# Altium footprint library Components - 24.04.26 - 12.29.PcbLib: 1 footprints
Each footprint in its own frame and in the unit in brackets; x right, y up, seen from the top. Pads: shape width x height; smd on the part's side, far side on the other; paste and mask are expansions set on the pad; w line width, h text height; cw(c..) or ccw(c..) is an arc to the next point about the centre after c.
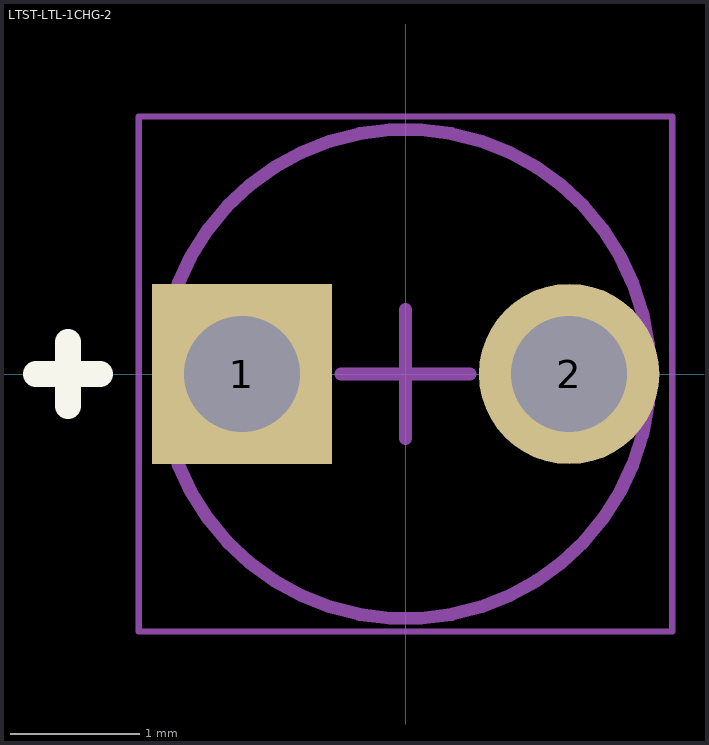
[diagram p0: the footprint, top view; thin cyan lines are the x and y axes]

## LTST-LTL-1CHG-2 [mm] "TH, 2-Leads, Dia 3.8mm"
height 6.5
pads (2):
  rect 1.4x1.4 hole 0.9: 1(-1.27,0)
  round 1.4 hole 0.9: 2(1.27,0)
Top Overlay:
  lines w0.2: -2.87,0 -2.37,0 ; -2.62,-0.25 -2.62,0.25
Mechanical 13:
  circle w0.1: c0,0 r1.9
Mechanical 15:
  lines w0.05: -2.07,-1.999 -2.07,1.999 2.07,1.999 2.07,-1.999 -2.07,-1.999
  lines w0.1: -0.5,0 0.5,0 ; 0,-0.5 0,0.5
3D body: height 6.5, standoff 0, extent -1.9,-1.899 1.9,1.899